# Altium schematic symbol library WL-SUMW.SchLib: 8 symbols
Pins are listed as number, name and electrical type; pins without a type are passive.

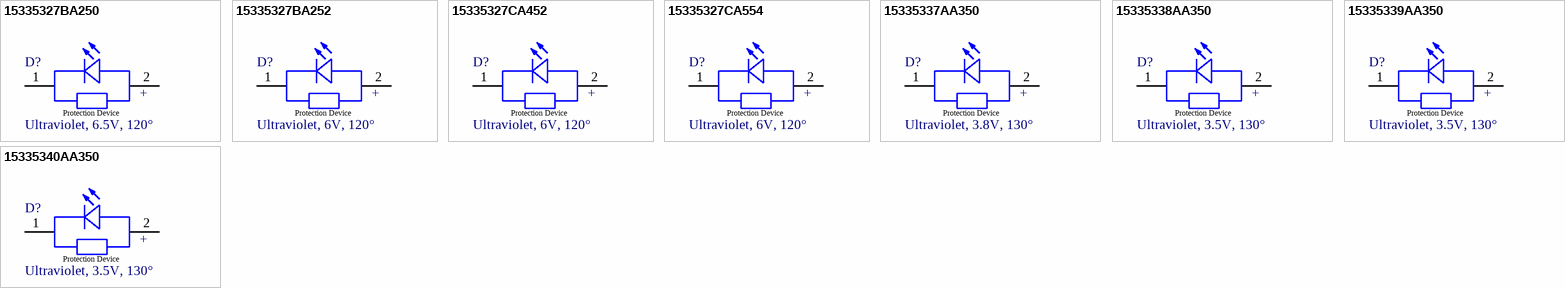
[diagram p0: symbols 15335327BA250 to 15335340AA350]

## 15335327BA250
designator D?, comment Ultraviolet, 6.5V, 120°
WL-SUMW Ultraviolet Ceramic Waterclear, size 3535 UV-C, Ultraviolet, 6.5V, 120°; Manufacturer Part Number: 15335327BA250; Manufacturer: Wurth Elektronik; Chip Technology: AlGaN; Peak Wavelength: 275nm; Radiant Flux Min: 1.5mW; Radiant Flux: 3mW; Category: Ultraviolet; Match Code: WL-SUMW; ComponentLink1Description: Website Link; ComponentLink1URL: https://www.we-online.com/redexpert/article/15335327BA250?ad; ComponentLink2Description: Datasheet Link; ComponentLink2URL: https://www.we-online.com/redexpert/spec/15335327BA250?ad; Mount: Surface Mount; Min Operating Temperature: -30°C; Max Operating Temperature: 60°C; Packaging: Tape and Reel; Case/Size Code: 3535 UV-C; Length: 3.55mm; Width: 3.55mm; Height: 1.62mm; Emitting Color: Ultraviolet; Forward Voltage: 6.5V; Viewing Angle: 120°
footprint WL-SUMW_3535 UV-C_L3.55W3.55H1.62
simulation model 3535_15335327BA250
pins: 1 K, 2 A
text: +; Protection Device

## 15335327BA252
designator D?, comment Ultraviolet, 6V, 120°
WL-SUMW Ultraviolet Ceramic Waterclear, size 3535 UV-C, Ultraviolet, 6V, 120°; Manufacturer Part Number: 15335327BA252; Manufacturer: Wurth Elektronik; Chip Technology: AlGaN; Peak Wavelength: 275nm; Radiant Flux Min: 8mW; Radiant Flux: 15mW; Category: Ultraviolet; Match Code: WL-SUMW; ComponentLink1Description: Website Link; ComponentLink1URL: https://www.we-online.com/redexpert/article/15335327BA252?ad; ComponentLink2Description: Datasheet Link; ComponentLink2URL: https://www.we-online.com/redexpert/spec/15335327BA252?ad; Mount: Surface Mount; Min Operating Temperature: -30°C; Max Operating Temperature: 60°C; Packaging: Tape and Reel; Case/Size Code: 3535 UV-C; Length: 3.55mm; Width: 3.55mm; Height: 1.62mm; Emitting Color: Ultraviolet; Forward Voltage: 6V; Viewing Angle: 120°
footprint WL-SUMW_3535 UV-C_L3.55W3.55H1.62
simulation model 3535_15335327BA252
pins: 1 K, 2 A
text: +; Protection Device

## 15335327CA452
designator D?, comment Ultraviolet, 6V, 120°
WL-SUMW Ultraviolet Ceramic Waterclear, size 3535 UV-C, Ultraviolet, 6V, 120°; Manufacturer Part Number: 15335327CA452; Manufacturer: Wurth Elektronik; Chip Technology: AlGaN; Peak Wavelength: 275nm; Radiant Flux Min: 13mW; Radiant Flux: 20mW; Category: Ultraviolet; Match Code: WL-SUMW; ComponentLink1Description: Website Link; ComponentLink1URL: https://www.we-online.com/redexpert/article/15335327CA452?ad; ComponentLink2Description: Datasheet Link; ComponentLink2URL: https://www.we-online.com/redexpert/spec/15335327CA452?ad; Mount: Surface Mount; Min Operating Temperature: -40°C; Max Operating Temperature: 55°C; Packaging: Tape and Reel; Case/Size Code: 3535 UV-C; Length: 3.65mm; Width: 3.65mm; Height: 1.27mm; Emitting Color: Ultraviolet; Forward Voltage: 6V; Viewing Angle: 120°
footprint WL-SUMW_3535 UV-C_L3.65W3.65H1.27
simulation model 3535_15335327CA452
pins: 1 K, 2 A
text: +; Protection Device

## 15335327CA554
designator D?, comment Ultraviolet, 6V, 120°
WL-SUMW Ultraviolet Ceramic Waterclear, size 3535 UV-C, Ultraviolet, 6V, 120°; Manufacturer Part Number: 15335327CA554; Manufacturer: Wurth Elektronik; Chip Technology: AlGaN; Peak Wavelength: 275nm; Radiant Flux Min: 40mW; Radiant Flux: 50mW; Category: Ultraviolet; Match Code: WL-SUMW; ComponentLink1Description: Website Link; ComponentLink1URL: https://www.we-online.com/redexpert/article/15335327CA554?ad; ComponentLink2Description: Datasheet Link; ComponentLink2URL: https://www.we-online.com/redexpert/spec/15335327CA554?ad; Mount: Surface Mount; Min Operating Temperature: -40°C; Max Operating Temperature: 75°C; Packaging: Tape and Reel; Case/Size Code: 3535 UV-C; Length: 3.65mm; Width: 3.65mm; Height: 1.27mm; Emitting Color: Ultraviolet; Forward Voltage: 6V; Viewing Angle: 120°
footprint WL-SUMW_3535 UV-C_L3.65W3.65H1.27
simulation model 3535_15335327CA554
pins: 1 K, 2 A
text: +; Protection Device

## 15335337AA350
designator D?, comment Ultraviolet, 3.8V, 130°
WL-SUMW Ultraviolet Ceramic Waterclear, size 3535 UV-A, Ultraviolet, 3.8V, 130°; Manufacturer Part Number: 15335337AA350; Manufacturer: Wurth Elektronik; Chip Technology: AlInGaN; Peak Wavelength: 365nm; Radiant Flux Min: 700mW; Radiant Flux Max: 1300mW; Category: Ultraviolet; Match Code: WL-SUMW; ComponentLink1Description: Website Link; ComponentLink1URL: https://www.we-online.com/redexpert/article/15335337AA350?ad; ComponentLink2Description: Datasheet Link; ComponentLink2URL: https://www.we-online.com/redexpert/spec/15335337AA350?ad; Mount: Surface Mount; Min Operating Temperature: -40°C; Max Operating Temperature: 85°C; Packaging: Tape and Reel; Case/Size Code: 3535 UV-A; Length: 3.4mm; Width: 3.4mm; Height: 2.1mm; Emitting Color: Ultraviolet; Forward Voltage: 3.8V; Viewing Angle: 130°
footprint WL-SUMW_3535 UV-A_L3.4W3.4H2.1
simulation model 3535_15335337AA350
pins: 1 K, 2 A
text: +; Protection Device

## 15335338AA350
designator D?, comment Ultraviolet, 3.5V, 130°
WL-SUMW Ultraviolet Ceramic Waterclear, size 3535 UV-A, Ultraviolet, 3.5V, 130°; Manufacturer Part Number: 15335338AA350; Manufacturer: Wurth Elektronik; Chip Technology: AlInGaN; Peak Wavelength: 385nm; Radiant Flux Min: 800mW; Radiant Flux Max: 1300mW; Category: Ultraviolet; Match Code: WL-SUMW; ComponentLink1Description: Website Link; ComponentLink1URL: https://www.we-online.com/redexpert/article/15335338AA350?ad; ComponentLink2Description: Datasheet Link; ComponentLink2URL: https://www.we-online.com/redexpert/spec/15335338AA350?ad; Mount: Surface Mount; Min Operating Temperature: -40°C; Max Operating Temperature: 85°C; Packaging: Tape and Reel; Case/Size Code: 3535 UV-A; Length: 3.4mm; Width: 3.4mm; Height: 2.1mm; Emitting Color: Ultraviolet; Forward Voltage: 3.5V; Viewing Angle: 130°
footprint WL-SUMW_3535 UV-A_L3.4W3.4H2.1
simulation model 3535_15335338AA350
pins: 1 K, 2 A
text: +; Protection Device

## 15335339AA350
designator D?, comment Ultraviolet, 3.5V, 130°
WL-SUMW Ultraviolet Ceramic Waterclear, size 3535 UV-A, Ultraviolet, 3.5V, 130°; Manufacturer Part Number: 15335339AA350; Manufacturer: Wurth Elektronik; Chip Technology: AlInGaN; Peak Wavelength: 395nm; Radiant Flux Min: 800mW; Radiant Flux Max: 1300mW; Category: Ultraviolet; Match Code: WL-SUMW; ComponentLink1Description: Website Link; ComponentLink1URL: https://www.we-online.com/redexpert/article/15335339AA350?ad; ComponentLink2Description: Datasheet Link; ComponentLink2URL: https://www.we-online.com/redexpert/spec/15335339AA350?ad; Mount: Surface Mount; Min Operating Temperature: -40°C; Max Operating Temperature: 85°C; Packaging: Tape and Reel; Case/Size Code: 3535 UV-A; Length: 3.4mm; Width: 3.4mm; Height: 2.1mm; Emitting Color: Ultraviolet; Forward Voltage: 3.5V; Viewing Angle: 130°
footprint WL-SUMW_3535 UV-A_L3.4W3.4H2.1
simulation model 3535_15335339AA350
pins: 1 K, 2 A
text: +; Protection Device

## 15335340AA350
designator D?, comment Ultraviolet, 3.5V, 130°
WL-SUMW Ultraviolet Ceramic Waterclear, size 3535 UV-A, Ultraviolet, 3.5V, 130°; Manufacturer Part Number: 15335340AA350; Manufacturer: Wurth Elektronik; Chip Technology: AlInGaN; Peak Wavelength: 405nm; Radiant Flux Min: 800mW; Radiant Flux Max: 1300mW; Category: Ultraviolet; Match Code: WL-SUMW; ComponentLink1Description: Website Link; ComponentLink1URL: https://www.we-online.com/redexpert/article/15335340AA350?ad; ComponentLink2Description: Datasheet Link; ComponentLink2URL: https://www.we-online.com/redexpert/spec/15335340AA350?ad; Mount: Surface Mount; Min Operating Temperature: -40°C; Max Operating Temperature: 85°C; Packaging: Tape and Reel; Case/Size Code: 3535 UV-A; Length: 3.4mm; Width: 3.4mm; Height: 2.1mm; Emitting Color: Ultraviolet; Forward Voltage: 3.5V; Viewing Angle: 130°
footprint WL-SUMW_3535 UV-A_L3.4W3.4H2.1
simulation model 3535_15335340AA350
pins: 1 K, 2 A
text: +; Protection Device